# Altium footprint library SG_PCB_Nazarenko.PcbLib: 10 footprints
Each footprint in its own frame and in the unit in brackets; x right, y up, seen from the top. Pads: shape width x height; smd on the part's side, far side on the other; paste and mask are expansions set on the pad; w line width, h text height; cw(c..) or ccw(c..) is an arc to the next point about the centre after c.
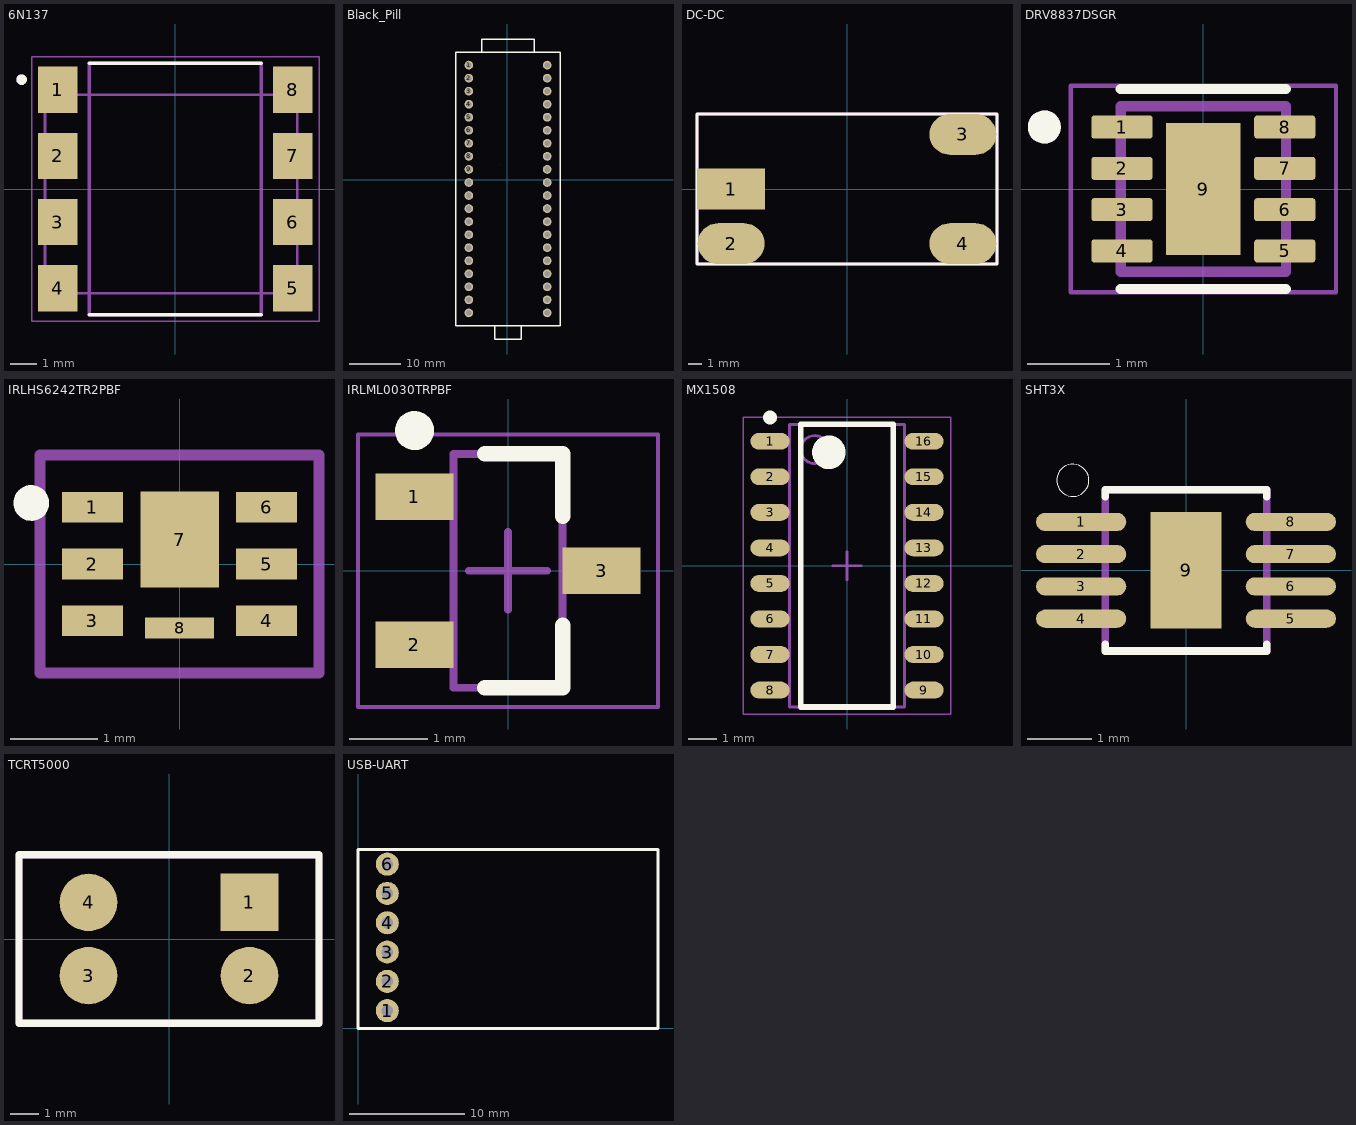
[diagram p0: the footprints below, top view; thin cyan lines are the x and y axes]

## 6N137 [mm] "smd-8"
pads (8):
  rect 1.525x1.78 smd: 1(-4.507,3.81) 2(-4.507,1.27) 3(-4.507,-1.27) 4(-4.507,-3.81) 5(4.507,-3.81) 6(4.507,-1.27) 7(4.507,1.27) 8(4.507,3.81)
Top Overlay:
  circle w0.2: c-5.9,4.2 r0.1
  lines w0.127: -3.303,-4.828 3.303,-4.828 ; -3.303,4.828 3.303,4.828
Mechanical 13:
  circle w0.2: c-5.9,4.2 r0.1
  lines w0.1: 4.68,-3.98 4.68,3.62 -5,3.62 -5,-4 4.69,-4
  lines w0.127: -3.303,-4.828 -3.303,4.828 3.303,4.828 3.303,-4.828 -3.303,-4.828
Mechanical 15:
  lines w0.05: -5.52,-5.078 -5.52,5.078 5.52,5.078 5.52,-5.078 -5.52,-5.078
3D body "6N137S--3DModel-STEP-56544.STEP": height 4.6, standoff 0, extent -5.08,-4.84 5.08,4.84

## Black_Pill [mm]
pads (40):
  round 1.7 hole 1.1 paste+0.102 mask+0.102: 1(-7.493,22.352) 2(-7.493,19.812) 3(-7.493,17.272) 4(-7.493,14.732) 5(-7.493,12.192) 6(-7.493,9.652) 7(-7.493,7.112) 8(-7.493,4.572) 9(-7.493,2.032) 10(-7.493,-0.508) 11(-7.493,-3.048) 12(-7.493,-5.588) 13(-7.493,-8.128) 14(-7.493,-10.668) 15(-7.493,-13.208) 16(-7.493,-15.748) 17(-7.493,-18.288) 18(-7.493,-20.828) 19(-7.493,-23.368) 20(-7.493,-25.908) 21(7.747,-25.908) 22(7.747,-23.368) 23(7.747,-20.828) 24(7.747,-18.288) 25(7.747,-15.748) 26(7.747,-13.208) 27(7.747,-10.668) 28(7.747,-8.128) 29(7.747,-5.588) 30(7.747,-3.048) 31(7.747,-0.508) 32(7.747,2.032) 33(7.747,4.572) 34(7.747,7.112) 35(7.747,9.652) 36(7.747,12.192) 37(7.747,14.732) 38(7.747,17.272) 39(7.747,19.812) 40(7.747,22.352)
Top Overlay:
  lines w0.254: -4.953,-28.448 5.207,-28.448 ; -2.54,-28.448 2.54,-28.448 ; -2.54,24.892 2.54,24.892 ; -2.413,-28.448 -2.413,-30.988 2.667,-30.988 2.667,-28.448 ; -10.033,-28.448 -10.033,24.892 10.287,24.892 10.287,-28.448 -10.033,-28.448 ; -4.953,24.892 5.207,24.892 5.207,27.432 -4.953,27.432 -4.953,24.892
Mechanical 15:
  lines w0.003: -1.397,3.048 -1.397,3.048

## DC-DC [mm]
pads (4):
  rect 5x3 smd: 1(-8.5,0)
  oval 4.9x3 smd: 2(-8.5,-4) 3(8.5,4) 4(8.5,-4)
Top Overlay:
  lines w0.254: -11,-5.5 -11,5.5 11,5.5 11,-5.5 -11,-5.5
Top 3D Body:
  lines w0.254: -11,-5.5 -11,5.5 11,5.5 11,-5.5 -11,-5.5
Top Courtyard:
  lines w0.254: -11,-5.5 -11,5.5 11,5.5 11,-5.5 -11,-5.5
3D body: height 1.5, standoff 0, extent -11,-5.5 11,5.5

## DRV8837DSGR [mm]
pads (9):
  rrect25% 0.74x0.28 smd: 1(-0.985,0.75) 2(-0.985,0.25) 3(-0.985,-0.25) 4(-0.985,-0.75) 5(0.985,-0.75) 6(0.985,-0.25) 7(0.985,0.25) 8(0.985,0.75)
  rect 0.9x1.6 smd paste-2: 9(0,0)
Top Overlay:
  circle w0.2: c-1.925,0.75 r0.1
  lines w0.127: -1,-1.21 1,-1.21 ; -1,1.21 1,1.21
Top Paste:
  region: 0.28,-0.51 -0.28,-0.51 -0.28,0.51 0.28,0.51
Mechanical 13:
  circle w0.2: c-1.925,0.75 r0.1
  lines w0.127: -1,-1 1,-1 1,1 -1,1 -1,-1
Mechanical 15:
  lines w0.05: -1.605,-1.25 1.605,-1.25 1.605,1.25 -1.605,1.25 -1.605,-1.25
3D body "User Library-DSG (S-PWSON-N8) (1).SLDPRT": height 0.8, standoff 0, extent -1.05,-1.05 1.05,1.05

## IRLHS6242TR2PBF [mm]
pads (8):
  rect 0.7x0.35 smd: 1(-1,0.65) 2(-1,0) 3(-1,-0.65) 4(1,-0.65) 5(1,0) 6(1,0.65)
  rect 0.9x1.1 smd: 7(0,0.28)
  rect 0.795x0.24 smd: 8(0,-0.735)
Top Overlay:
  circle w0.305: c-1.7,0.7 r0.05
  circle w0.127: c-1.7,0.7 r0.141
Mechanical 15:
  lines w0.127: -1.6,-1.25 -1.6,1.25 1.6,1.25 1.6,-1.25 -1.6,-1.25

## IRLML0030TRPBF [mm] "SOT23, 3-Leads, Body 2,90x2,37mm, Pitch 0,95mm, IPC Medium Density"
height 1.1
pads (3):
  rect 1x0.6 smd: 1(-1.2,0.95) 2(-1.2,-0.95) 3(1.2,0)
Top Overlay:
  circle w0.25: c-1.2,1.8 r0.125
  lines w0.2: -0.3,-1.5 0.7,-1.5 0.7,-0.7 ; -0.3,1.5 0.7,1.5 0.7,0.7
Top Courtyard:
  lines w0.05: -1.925,-1.75 -1.925,1.75 1.925,1.75 1.925,-1.75 -1.925,-1.75
  lines w0.1: -0.5,0 0.5,0 ; 0,-0.5 0,0.5
Top Assembly:
  lines w0.1: -0.7,-1.5 -0.7,1.5 0.7,1.5 0.7,-1.5 -0.7,-1.5
3D body "SOT23.step": height 1.1, standoff 0, extent -1.32,-1.5 1.32,1.5

## MX1508 [mm] "SOP, 16-Leads, Body 9,90x3,90mm, Pitch 1,27mm, IPC Medium Density"
height 1.77
pads (16):
  oval 1.4x0.6 smd: 1(-2.75,4.445) 2(-2.75,3.175) 3(-2.75,1.905) 4(-2.75,0.635) 5(-2.75,-0.635) 6(-2.75,-1.905) 7(-2.75,-3.175) 8(-2.75,-4.445) 9(2.75,-4.445) 10(2.75,-3.175) 11(2.75,-1.905) 12(2.75,-0.635) 13(2.75,0.635) 14(2.75,1.905) 15(2.75,3.175) 16(2.75,4.445)
Top Overlay:
  circle w0.6: c-0.65,4.05 r0.3
  circle w0.25: c-2.75,5.295 r0.125
  lines w0.2: -1.65,-5.05 1.65,-5.05 1.65,5.05 -1.65,5.05 -1.65,-5.05
Mechanical 13:
  circle w0.1: c-1.15,4.15 r0.5
  lines w0.1: -2.05,-5.05 2.05,-5.05 2.05,5.05 -2.05,5.05 -2.05,-5.05
Mechanical 15:
  lines w0.05: -3.7,-5.3 3.7,-5.3 3.7,5.3 -3.7,5.3 -3.7,-5.3
  lines w0.1: -0.5,0 0.5,0 ; 0,-0.5 0,0.5
3D body: height 1.77, standoff 0.08, extent -2.05,-5.05 2.05,5.05

## SHT3X [mm]
pads (9):
  oval 1.4x0.282 smd: 1(-1.625,0.75) 2(-1.625,0.25) 3(-1.625,-0.25) 4(-1.625,-0.75) 5(1.625,-0.75) 6(1.625,-0.25) 7(1.625,0.25) 8(1.625,0.75)
  rect 1.1x1.8 smd: 9(0,0)
Top Overlay:
  circle w0: c-1.754,1.395 r0.25
  lines w0.12: -1.25,-1.145 -1.25,-1.25 1.25,-1.25 1.25,-1.145 ; -1.25,1.145 -1.25,1.25 1.25,1.25 1.25,1.145
Mechanical 13:
  lines w0.12: -1.25,-1.25 -1.25,1.25 1.25,1.25 1.25,-1.25 -1.25,-1.25
3D body "step_temp.STEP": height 0.9, standoff 0, extent -1.251,-1.251 1.251,1.251

## TCRT5000 [mm]
pads (4):
  rect 2x2 smd: 1(2.794,1.27)
  round 2 smd: 2(2.794,-1.27) 3(-2.794,-1.27) 4(-2.794,1.27)
Top Overlay:
  lines w0.254: -5.207,-2.921 -5.207,2.921 5.207,2.921 5.207,-2.921 -5.207,-2.921
Top 3D Body:
  lines w0.254: -5.207,-2.921 -5.207,2.921 5.207,2.921 5.207,-2.921 -5.207,-2.921
Top Courtyard:
  lines w0.254: -5.207,-2.921 -5.207,2.921 5.207,2.921 5.207,-2.921 -5.207,-2.921
3D body "User Library-TCRT-5000.X_B": height 6.5, standoff -25.41, extent -5.15,-2.9 5.15,2.9

## USB-UART [mm]
pads (6):
  round 2 hole 1: 1(2.54,1.54) 2(2.54,4.08) 3(2.54,6.62) 4(2.54,9.16) 5(2.54,11.7) 6(2.54,14.24)
Top Overlay:
  lines w0.254: 0,0 26,0 26,15.5 0,15.5 0,0
3D body "811-s1-006-10-015101_01.SLDPRT": height 4.1, standoff -3.4, extent 1.27,0.27 3.81,15.51
3D body "User Library-USB-Male Port.sldprt": height 5, standoff 0.24, extent 22.334,1.992 40.666,14
3D body: height 2, standoff 0, extent 0,0 26,15.5
3D body: height 3, standoff 1, extent 9,5 16,12